# Altium footprint library SRP2313AA.PcbLib: 1 footprints
Each footprint in its own frame and in the unit in brackets; x right, y up, seen from the top. Pads: shape width x height; smd on the part's side, far side on the other; paste and mask are expansions set on the pad; w line width, h text height; cw(c..) or ccw(c..) is an arc to the next point about the centre after c.
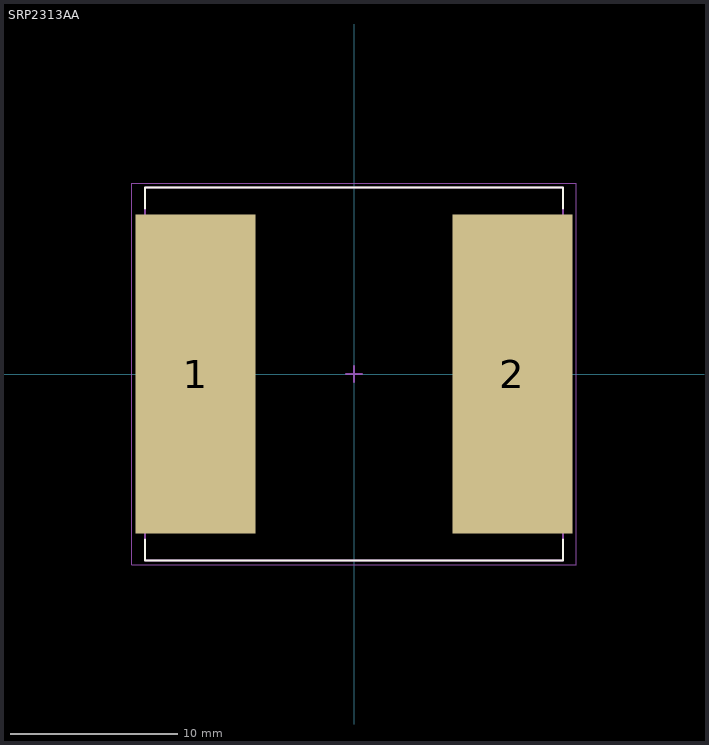
[diagram p0: the footprint, top view; thin cyan lines are the x and y axes]

## SRP2313AA [mm] "Precision Wire Wound Inductor, 2-Leads, Body 24.00x22.00mm, IPC Medium Density"
height 13
pads (2):
  rect 7.15x19.1 smd: 1(-9.475,0) 2(9.475,0)
Top Overlay:
  lines w0.1: -12.5,-9.9 -12.5,-11.15 12.5,-11.15 12.5,-9.9 ; -12.5,9.9 -12.5,11.15 12.5,11.15 12.5,9.9
Mechanical 1:
  lines w0.1: -12.5,-11.15 12.5,-11.15 12.5,11.15 -12.5,11.15 -12.5,-11.15
  text ".Designator" at -3.175,-0.258 h0.65
Mechanical 2:
  lines w0.05: -13.3,-11.4 13.3,-11.4 13.3,11.4 -13.3,11.4 -13.3,-11.4
  lines w0.1: -0.5,0 0.5,0 ; 0,-0.5 0,0.5
3D body "SRP2313AA.step": height 13.1, standoff 0, extent -12.1,-11 12.1,11